# Altium footprint library LM2596.PcbLib: 1 footprints
Each footprint in its own frame and in the unit in brackets; x right, y up, seen from the top. Pads: shape width x height; smd on the part's side, far side on the other; paste and mask are expansions set on the pad; w line width, h text height; cw(c..) or ccw(c..) is an arc to the next point about the centre after c.
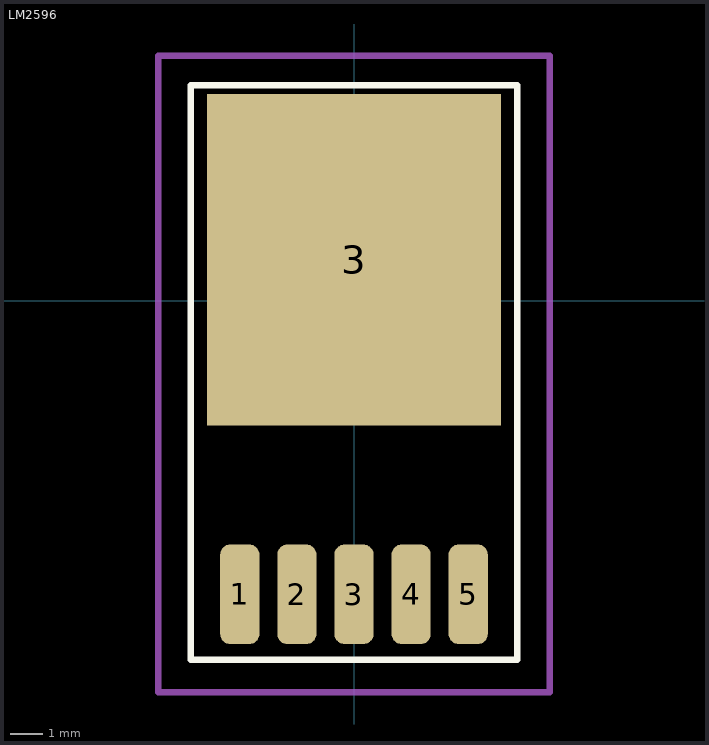
[diagram p0: the footprint, top view; thin cyan lines are the x and y axes]

## LM2596 [mm] "DC-DC BUCK/D2PAK"
pads (6):
  rrect50% 1.2x3.05 smd: 1(-3.5,-9) 2(-1.75,-9) 3(0,-9) 4(1.75,-9) 5(3.5,-9)
  rect 9x10.16 smd: 3(0,1.25)
Top Overlay:
  lines w0.2: -5,-11 5,-11 5,6.6 -5,6.6 -5,5 -5,-11
Mechanical 15:
  lines w0.2: -1.15,0 1.15,0 ; 0,-1.15 0,1.15 ; -6,-12 -6,7.5 6,7.5 6,-12 -6,-12
3D body "TO263-5-1.stp": height 4.22, standoff 0, extent -4.911,-9.561 4.911,5.041